# Altium footprint library BalanceCar_pcblib.PcbLib: 36 footprints (part 3 of 3)
Each footprint in its own frame and in the unit in brackets; x right, y up, seen from the top. Pads: shape width x height; smd on the part's side, far side on the other; paste and mask are expansions set on the pad; w line width, h text height; cw(c..) or ccw(c..) is an arc to the next point about the centre after c.
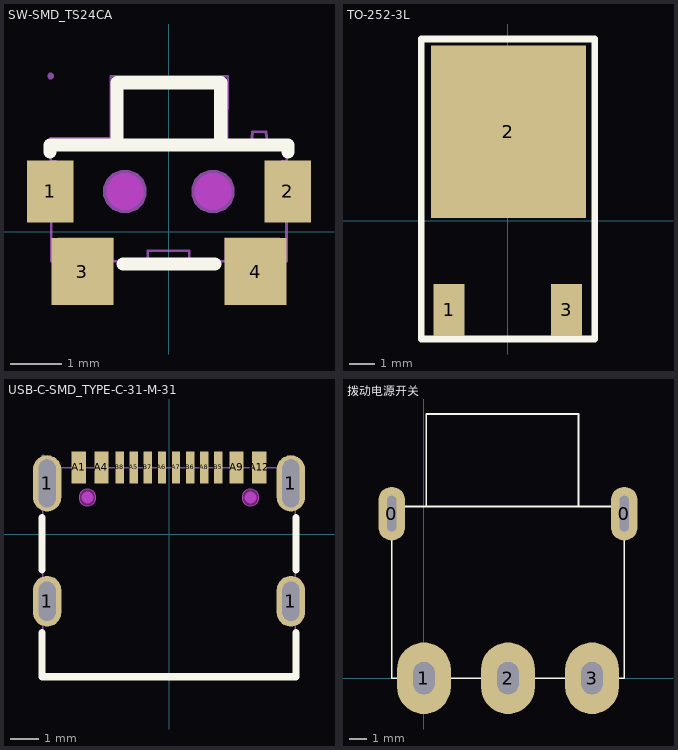
[diagram p2: the footprints below, top view; thin cyan lines are the x and y axes]

## SW-SMD_TS24CA [mil]
pads (4):
  rect 35.4x47.2 smd mask+2: 1(-90.5,30.5) 2(90.6,30.5)
  rect 47.2x51.2 smd mask+2: 3(-65.9,-30.5) 4(66,-30.5)
Top Overlay:
  lines w10: -90.6,60.5 -90.6,65.9 90.6,65.9 90.6,60.5 ; -39.4,65.9 -39.4,113.2 39.4,113.2 39.4,65.9 ; -35,-24.6 35,-24.6
Keep-Out Layer:
  board cut-out: -19.7,30.5 -19.7,33.24 -21.8,38.32 -25.68,42.2 -30.76,44.3 -36.24,44.3 -41.32,42.2 -45.2,38.32 -47.3,33.24 -47.3,30.5 -47.3,27.75 -45.2,22.68 -41.32,18.8 -36.24,16.7 -30.76,16.7 -25.68,18.8 -21.8,22.68 -19.7,27.75 -19.7,30.5
  board cut-out: 47.3,30.5 47.3,33.24 45.2,38.32 41.32,42.2 36.24,44.3 30.75,44.3 25.68,42.2 21.8,38.32 19.7,33.24 19.7,30.5 19.7,27.75 21.8,22.68 25.68,18.8 30.75,16.7 36.24,16.7 41.32,18.8 45.2,22.68 47.3,27.75 47.3,30.5
Mechanical 1:
  circle w0.2: c-33.5,30.5 r13.8
  circle w0.2: c33.5,30.5 r13.8
Mechanical 6:
  circle w10: c-98.1,33 r3.1
Mechanical 15:
  circle w2: c-33.5,30.5 r6.9
  circle w2: c33.5,30.5 r6.9
  region: -17.2,30.5 -17.2,33.74 -19.68,39.73 -24.27,44.32 -30.26,46.8 -36.74,46.8 -42.73,44.32 -47.32,39.73 -49.8,33.74 -49.8,30.5 -49.8,27.26 -47.32,21.27 -42.73,16.68 -36.74,14.2 -30.26,14.2 -24.27,16.68 -19.68,21.27 -17.2,27.26 -17.2,30.5
  region: 49.8,30.5 49.8,33.74 47.32,39.73 42.73,44.32 36.74,46.8 30.26,46.8 24.27,44.32 19.68,39.73 17.2,33.74 17.2,30.5 17.2,27.26 19.68,21.27 24.27,16.68 30.26,14.2 36.74,14.2 42.73,16.68 47.32,21.27 49.8,27.26 49.8,30.5
  region: -87.6,118.4 -87.6,119.39 -89.01,120.8 -90.99,120.8 -92.4,119.39 -92.4,118.4 -92.4,117.41 -90.99,116 -89.01,116 -87.6,117.41 -87.6,118.4
  region: -85.6,28.6 -89.5,28.6 -89.6,28.6 -89.6,54.1 -89.5,54.2 -85.6,54.2 -85.6,28.6 -85.8,28.6 -86.4,28.6
  region: 85.2,28.6 89.5,28.6 89.6,28.6 89.6,54.1 85.3,54.1 85.3,28.6
  region: -84.8,-4.9 -84.8,-22.6 -75,-22.6 -75,-26.6 -59.3,-26.6 -59.3,-22.6 -42.3,-22.6 -42.3,-4.9 -42.4,-4.9 -84.8,-4.9 -84.8,-5.2 -84.8,-5
  region: 84.5,-4.9 84.5,-22.6 74.7,-22.6 74.7,-26.5 58.9,-26.5 58.9,-22.6 42.3,-22.6 42.3,-22.7 42.3,-18.2 42.3,-13.7 42.3,-5 42.4,-4.9 84.5,-4.8 84.5,-5.1 84.5,-4.9
  lines w2: -89.8,70.9 -44.4,71 -44.2,118.2 44.8,118.2 44.4,68 62.8,67.9 63.6,75.8 73.9,75.8 74.7,68 89.6,67.9 89.5,-22.7 84.4,-22.6 74.6,-22.6 74.6,-26.6 58.9,-26.6 58.9,-22.6 15.6,-22.6 15.5,-14.8 -16,-14.7 -16,-22.6 -59.3,-22.6 -59.3,-26.5 -75,-26.5 -75,-22.6 -89.6,-22.7 -89.8,70.9

## TO-252-3L [mm]
pads (3):
  rect 1.2x2 smd: 1(-2.28,-3.457) 3(2.28,-3.457)
  rect 6x6.7 smd: 2(0.02,3.457)
Top Overlay:
  lines w0.254: -3.365,-4.583 -3.365,2.783 -3.365,7.058 3.365,7.058 3.365,-4.583 -3.365,-4.583

## USB-C-SMD_TYPE-C-31-M-31 [mil]
pads (16):
  oval 39.4x70.9 hole 23.6 slot 55.1 at 90 deg mask+2: 1(-170.1,-93.5) 1(170.1,-93.5)
  oval 39.4x78.7 hole 23.6 slot 66.9 at 90 deg mask+2: 1(-170.1,71.1) 1(170.1,71.1)
  rect 19.7x44.9 smd mask+2: A1(-126,93.4) A4(-94.5,93.4) A9(94.5,93.4) A12(126,93.4)
  rect 11.8x44.9 smd mask+2: A5(-49.2,93.4) A6(-9.8,93.4) A7(9.8,93.4) A8(49.2,93.5) B5(68.9,93.4) B6(29.5,93.4) B7(-29.5,93.4) B8(-68.9,93.5)
Top Overlay:
  lines w10: -177.2,-137.1 -177.2,-198.9 175,-198.9 177.2,-198.9 177.2,-137.1 ; -177.2,-49.8 -177.2,23.5 ; 177.2,-49.8 177.2,23.5
Top Paste:
  drawing of 16 lines, arcs and shapes, not listed
Keep-Out Layer:
  board cut-out: 125.6,51.4 125.6,53.75 123.8,58.08 120.48,61.4 116.15,63.2 111.45,63.2 107.12,61.4 103.8,58.08 102,53.75 102,51.4 102,49.05 103.8,44.72 107.12,41.4 111.45,39.6 116.15,39.6 120.48,41.4 123.8,44.72 125.6,49.05 125.6,51.4
  board cut-out: -102,51.4 -102,53.75 -103.8,58.08 -107.12,61.4 -111.45,63.2 -116.15,63.2 -120.48,61.4 -123.8,58.08 -125.6,53.75 -125.6,51.4 -125.6,49.05 -123.8,44.72 -120.48,41.4 -116.15,39.6 -111.45,39.6 -107.12,41.4 -103.8,44.72 -102,49.05 -102,51.4
Mechanical 1:
  circle w0.2: c113.8,51.4 r11.8
  circle w0.2: c-113.8,51.4 r11.8
Mechanical 15:
  region: -173.6,108.5 -173.6,109.49 -175.01,110.9 -176.99,110.9 -178.4,109.49 -178.4,108.5 -178.4,107.51 -176.99,106.1 -175.01,106.1 -173.6,107.51 -173.6,108.5
  region: 121.7,51.4 121.7,52.97 120.5,55.87 118.27,58.1 115.37,59.3 112.23,59.3 109.33,58.1 107.1,55.87 105.9,52.97 105.9,51.4 105.9,49.83 107.1,46.92 109.33,44.7 112.23,43.5 115.37,43.5 118.27,44.7 120.5,46.92 121.7,49.83 121.7,51.4
  region: -105.9,51.4 -105.9,52.97 -107.1,55.87 -109.33,58.1 -112.23,59.3 -115.37,59.3 -118.28,58.1 -120.5,55.87 -121.7,52.97 -121.7,51.4 -121.7,49.83 -120.5,46.92 -118.28,44.7 -115.37,43.5 -112.23,43.5 -109.33,44.7 -107.1,46.92 -105.9,49.83 -105.9,51.4
  region: -72.8,108.5 -65,108.5 -65,84.9 -72.8,84.9
  region: -53.1,108.5 -45.3,108.5 -45.3,84.9 -53.1,84.9
  region: -33.5,108.5 -25.6,108.5 -25.6,84.9 -33.5,84.9
  region: -13.8,108.5 -5.9,108.5 -5.9,84.9 -13.8,84.9
  region: 5.9,108.5 13.8,108.5 13.8,84.9 5.9,84.9
  region: 25.6,108.5 33.5,108.5 33.5,84.9 25.6,84.9
  region: 45.3,108.5 53.1,108.5 53.1,84.9 45.3,84.9
  region: 65,108.5 72.8,108.5 72.8,84.9 65,84.9
  region: -102.4,108.5 -86.6,108.5 -86.6,84.9 -102.4,84.9
  region: -133.9,108.5 -118.1,108.5 -118.1,84.9 -133.9,84.9
  region: 86.6,108.5 102.4,108.5 102.4,84.9 86.6,84.9
  region: 118.1,108.5 133.9,108.5 133.9,84.9 118.1,84.9
  region: -176,92.7 -164.2,92.7 -164.2,49.4 -176,49.4
  region: 164.2,92.8 176,92.8 176,49.4 164.2,49.4
  region: -176,-77.7 -164.2,-77.7 -164.2,-109.2 -176,-109.2
  region: 164.2,-77.7 176,-77.7 176,-109.2 164.2,-109.2
  lines w2: -176,-195.4 176,-195.4 176,92.8 -176,92.8 -176,-195.4

## 拨动电源开关 [mm]
height 9.6
pads (5):
  oval 1.5x3 hole 0.5 slot 2 at 90 deg: 0(-1.8,9.2) 0(11.2,9.2)
  oval 3x4 hole 1.2 slot 1.8 at 90 deg: 1(0,0) 2(4.7,0) 3(9.4,0)
Top Overlay:
  lines w0.1: 0.127,9.601 0.127,14.77 8.636,14.77 8.636,9.627 ; -1.8,0 -1.8,9.601 11.2,9.601 11.2,0 -1.8,0